# EAGLE library part ADS1251U (library RalimTek)
24-Bit, 20kHz, Low-Power ANALOG-TO-DIGITAL CONVERTER
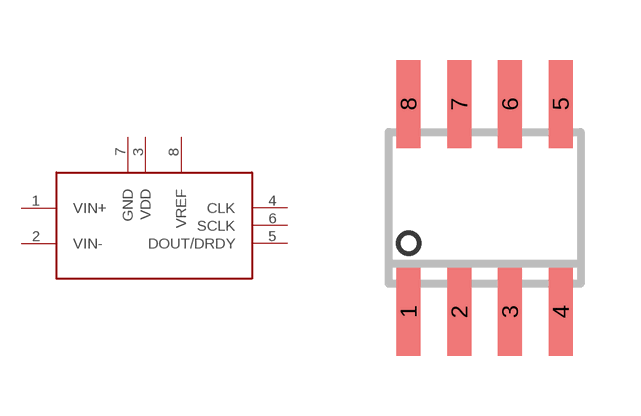
[diagram p32: symbol with the pads of SOIC8; footprint SOIC8]

Designator prefix -

## ADS1251U  [SOIC8]
1  VIN+
2  VIN-
3  VDD
4  CLK
5  DOUT/DRDY
6  SCLK
7  GND
8  VREF

## Footprint SOIC8 (pad centres in mm)
Small Outline IC
smd 0.6 x 2.2: 1 -1.905,-2.6; 2 -0.635,-2.6; 3 0.635,-2.6; 4 1.905,-2.6; 5 1.905,2.6; 6 0.635,2.6; 7 -0.635,2.6; 8 -1.905,2.6